# Altium schematic symbol library DRV8251DDAR.SchLib: 2 symbols
Pins are listed as number, name and electrical type; pins without a type are passive.

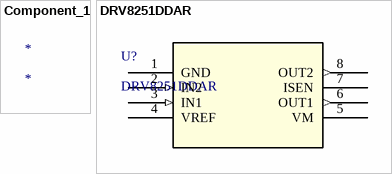
[diagram p0: symbols Component_1 to DRV8251DDAR]

## Component_1
designator *

## DRV8251DDAR
designator U?
No Description Available; Mfr_Name: Texas Instruments; Copyright: Copyright (C) 2023 Ultra Librarian. All rights reserved.; Manufacturer_Part_Number: DRV8251DDAR; RefDes: RefDes; Type: DEV
footprint POWERPAD_DDA_TEX
pins: 1 GND (power), 2 IN2 (in), 3 IN1 (in), 4 VREF (power), 5 VM (power), 6 OUT1 (out), 7 ISEN (power), 8 OUT2 (out)